# EAGLE library part HLK-RM04 (library solderandflux)
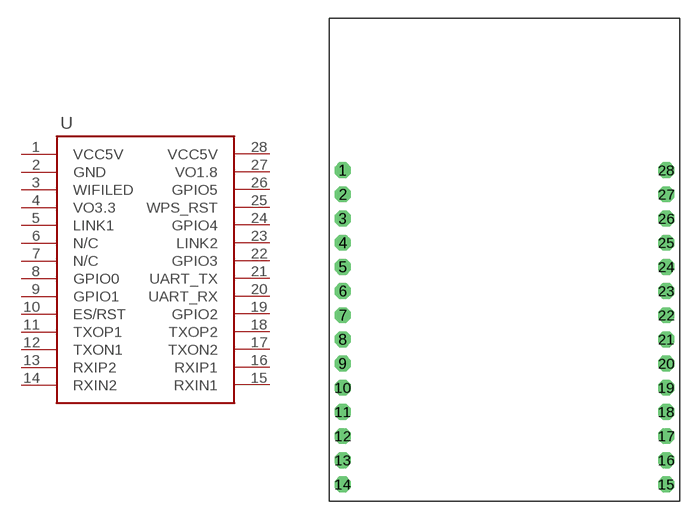
[diagram p0: symbol with the pads of HLK-RM04; footprint HLK-RM04]

Designator prefix -

## HLK-RM04  [HLK-RM04]
1  VCC5V
2  GND
3  WIFILED
4  VO3.3
5  LINK1
6  N/C
7  N/C
8  GPIO0
9  GPIO1
10  ES/RST
11  TXOP1
12  TXON1
13  RXIP2
14  RXIN2
15  RXIN1
16  RXIP1
17  TXON2
18  TXOP2
19  GPIO2
20  UART_RX
21  UART_TX
22  GPIO3
23  LINK2
24  GPIO4
25  WPS_RST
26  GPIO5
27  VO1.8
28  VCC5V

## Footprint HLK-RM04 (pad centres in mm)
drill 0.8 octagon: 1 1.125,-12.59; 2 1.125,-14.59; 3 1.125,-16.59; 4 1.125,-18.59; 5 1.125,-20.59; 6 1.125,-22.59; 7 1.125,-24.59; 8 1.125,-26.59; 9 1.125,-28.59; 10 1.125,-30.59; 11 1.125,-32.59; 12 1.125,-34.59; 13 1.125,-36.59; 14 1.125,-38.59; 15 27.875,-38.59; 16 27.875,-36.59; 17 27.875,-34.59; 18 27.875,-32.59; 19 27.875,-30.59; 20 27.875,-28.59; 21 27.875,-26.59; 22 27.875,-24.59; 23 27.875,-22.59; 24 27.875,-20.59; 25 27.875,-18.59; 26 27.875,-16.59; 27 27.875,-14.59; 28 27.875,-12.59